# EAGLE library part 74HCT139D,653 (library SamacSys_Parts)
74HC(T)139 - Dual 2-to-4 line decoder/demultiplexer@en-us Source: Datasheet <https://assets.nexperia.com/documents/data-sheet/74HC_HCT139.pdf>
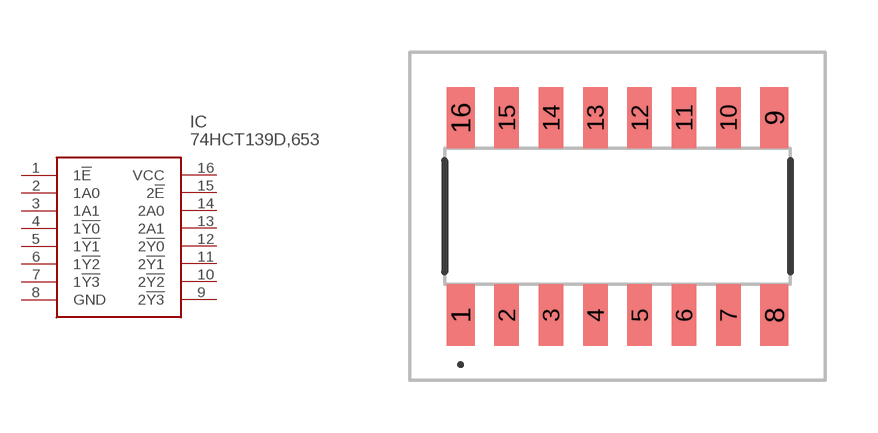
[diagram p96: symbol with the pads of 74HCT139D653; footprint 74HCT139D653]

Designator prefix IC

## 74HCT139D,653 (DESCRIPTION: 74HC(T)139 - Dual 2-to-4 line decoder/demultiplexer@en-us; HEIGHT: 1.75mm; MANUFACTURER_NAME: Nexperia; MANUFACTURER_PART_NUMBER: 74HCT139D,653; MOUSER_PART_NUMBER: 771-74HCT139D-T; MOUSER_PRICE-STOCK: https://www.mouser.co.uk/ProductDetail/Nexperia/74HCT139D653?qs=P62ublwmbi8jR%252BQdPOf%2FUA%3D%3D)  [74HCT139D653]
1  1!E
2  1A0
3  1A1
4  1!Y0
5  1!Y1
6  1!Y2
7  1!Y3
8  GND
9  2!Y3
10  2!Y2
11  2!Y1
12  2!Y0
13  2A1
14  2A0
15  2!E
16  VCC

## Footprint 74HCT139D653 (pad centres in mm)
74HCT139D,653-2
smd 0.8 x 1.75: 1 -4.495,-2.825; 8 4.495,-2.825; 9 4.495,2.825; 16 -4.495,2.825
smd 0.7 x 1.75: 2 -3.175,-2.825; 3 -1.905,-2.825; 4 -0.635,-2.825; 5 0.635,-2.825; 6 1.905,-2.825; 7 3.175,-2.825; 10 3.175,2.825; 11 1.905,2.825; 12 0.635,2.825; 13 -0.635,2.825; 14 -1.905,2.825; 15 -3.175,2.825